# Altium footprint library PCBlib.PcbLib: 54 footprints (part 4 of 4)
Each footprint in its own frame and in the unit in brackets; x right, y up, seen from the top. Pads: shape width x height; smd on the part's side, far side on the other; paste and mask are expansions set on the pad; w line width, h text height; cw(c..) or ccw(c..) is an arc to the next point about the centre after c.
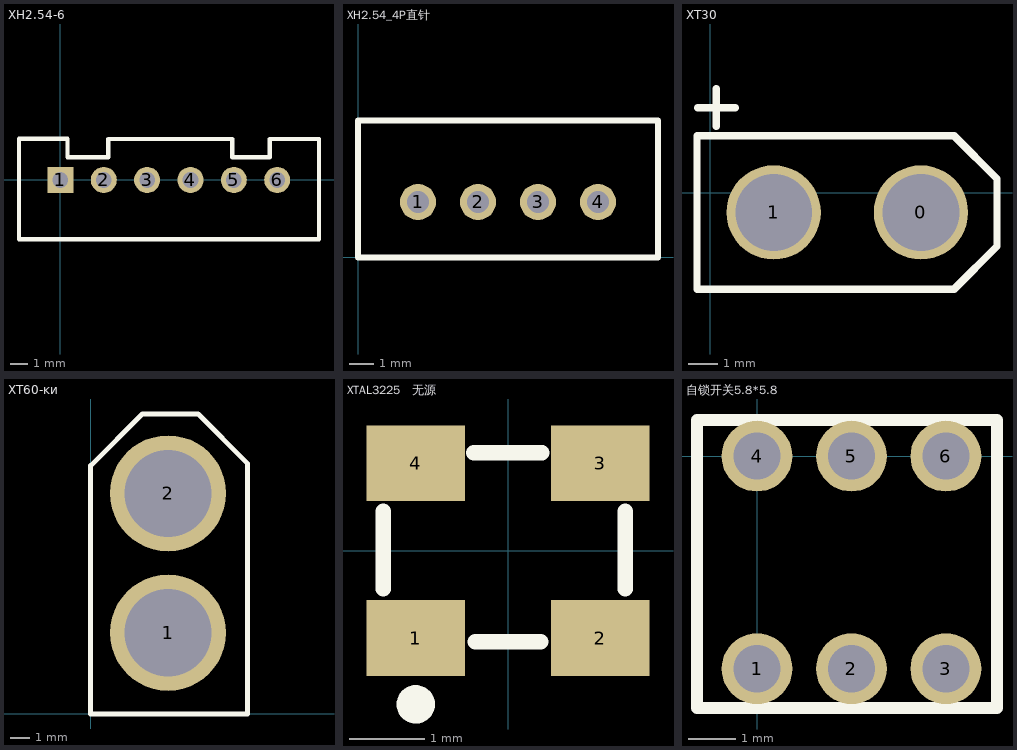
[diagram p3: the footprints below, top view; thin cyan lines are the x and y axes]

## XH2.54-6 [mm]
pads (6):
  rect 1.5x1.5 hole 0.9: 1(0,0)
  round 1.5 hole 0.9: 2(2.5,0) 3(5,0) 4(7.5,0) 5(10,0) 6(12.5,0)
Top Overlay:
  lines w0.254: -2.388,-3.429 14.91,-3.429 14.91,2.362 12.065,2.362 12.065,1.321 9.906,1.321 9.906,2.362 2.769,2.362 2.769,1.321 0.406,1.321 0.406,2.388 -2.388,2.388 -2.388,-3.429
3D body "6pin-2.5.step": height 7, standoff -3.4, extent -2.477,-3.383 14.923,2.367

## XH2.54_4P直针 [mm]
pads (4):
  round 1.5 hole 0.9: 1(2.5,2.31) 2(5,2.31) 3(7.5,2.31) 4(10,2.31)
Top Overlay:
  lines w0.254: 0,0 12.5,0 12.5,5.7 0,5.7 0,0

## XT30 [mm]
pads (2):
  round 3.2 hole 2.6: 0(7.147,-0.671) 1(2.147,-0.671)
Top Overlay:
  lines w0.254: -0.433,2.885 0.837,2.885 ; 0.202,2.25 0.202,3.52 ; 8.33,-3.211 9.727,-1.814 ; 8.33,1.869 9.727,0.472 ; 9.727,-1.814 8.27,-3.271 -0.453,-3.271 -0.453,1.929 8.27,1.929 9.727,0.472 ; 9.727,-1.814 9.727,0.472
3D body: height 11.5, standoff 5, extent 0.202,-2.576 9.092,1.234
3D body: height 5, standoff 0, extent -0.433,-3.211 9.727,1.996

## XT60-ĸͷ [mm]
pads (2):
  round 6 hole 4.5: 1(4,4.2) 2(4,11.4)
Top Overlay:
  lines w0.254: 0,12.827 2.667,15.494 2.667,15.5 ; 5.08,15.5 5.554,15.5 ; 2.667,15.5 0,12.833 0,0 8.1,0 8.1,12.954 ; 2.667,15.5 5.554,15.5 ; 5.554,15.5 8.1,12.954 ; 5.554,15.5 8.1,12.954

## XTAL3225   无源 [mm]
pads (4):
  rect 1.3x1 smd: 1(-1.219,-1.156) 2(1.219,-1.156) 3(1.219,1.156) 4(-1.219,1.156)
Top Overlay:
  circle w0.254: c-1.219,-2.032 r0.127
  lines w0.203: -1.651,-0.507 -1.651,0.519 ; -0.452,1.294 0.45,1.294 ; -0.432,-1.207 0.432,-1.207 ; 1.549,-0.506 1.549,0.519

## 自锁开关5.8*5.8 [mm]
pads (6):
  round 1.5 hole 1: 1(0,-4.5) 2(2,-4.5) 3(4,-4.5) 4(0,0) 5(2,0) 6(4,0)
Top Overlay:
  lines w0.254: -1.27,-5.334 5.08,-5.334 5.08,0.766 -1.27,0.766 -1.27,-5.334